# Altium footprint library 4.26-KF-3.5mm连接器.PcbLib: 7 footprints
Each footprint in its own frame and in the unit in brackets; x right, y up, seen from the top. Pads: shape width x height; smd on the part's side, far side on the other; paste and mask are expansions set on the pad; w line width, h text height; cw(c..) or ccw(c..) is an arc to the next point about the centre after c.
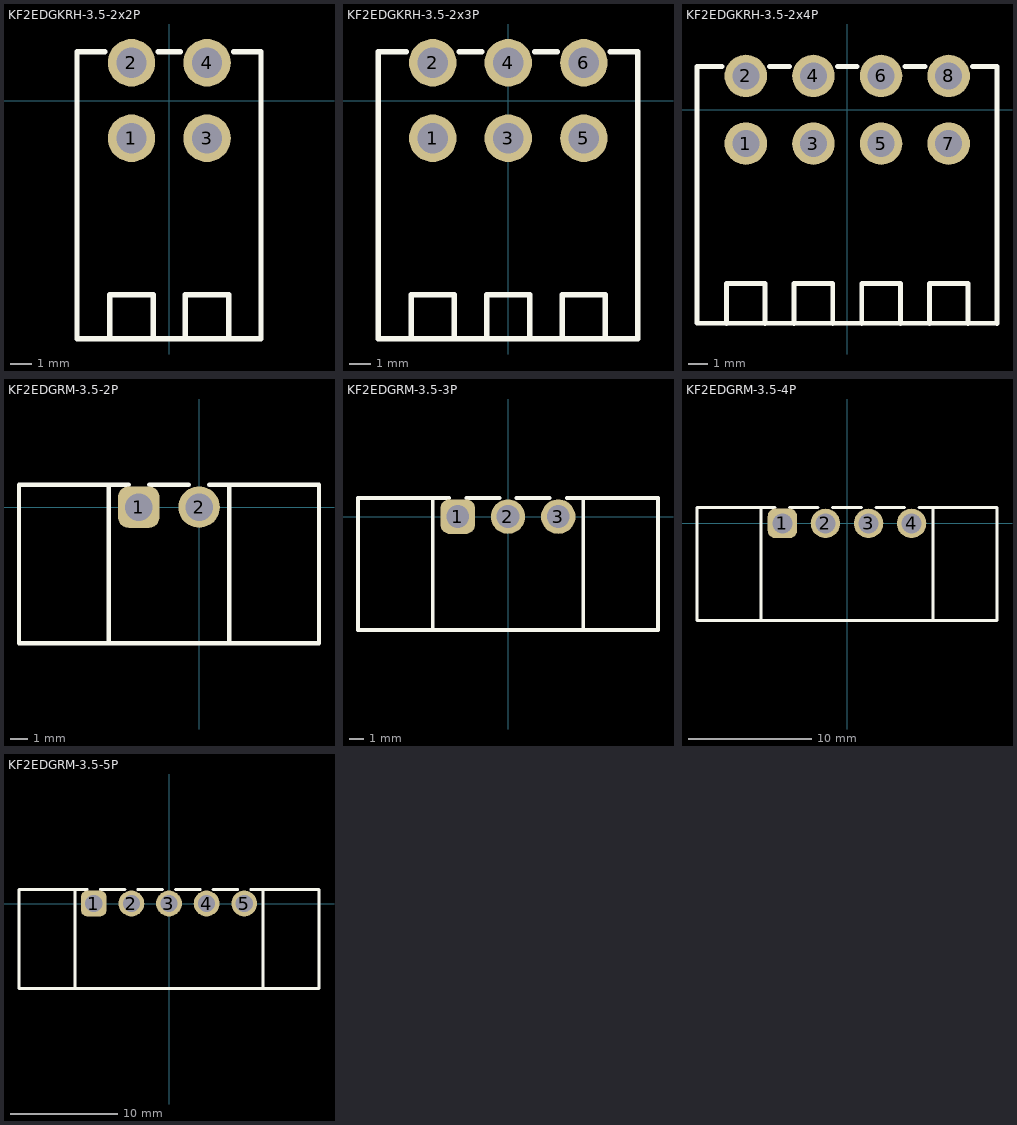
[diagram p0: the footprints below, top view; thin cyan lines are the x and y axes]

## KF2EDGKRH-3.5-2x2P [mm]
pads (4):
  round 2.2 hole 1.4: 1(-1.75,-1.75) 2(-1.75,1.75) 3(1.75,-1.75) 4(1.75,1.75)
Top Overlay:
  lines w0.254: -2.983,2.25 -4.275,2.25 -4.275,-11.049 4.25,-11.049 ; -2.75,-11.05 -2.75,-9 -0.75,-9 -0.75,-11.05 ; -0.517,2.25 0.517,2.25 ; 0.75,-11.05 0.75,-9 2.75,-9 2.75,-11.05 ; 2.983,2.25 4.25,2.25 4.25,-11.05
3D body: height 15.33, standoff -2.47, extent -4.25,-11.15 4.25,2.15

## KF2EDGKRH-3.5-2x3P [mm]
pads (6):
  round 2.2 hole 1.4: 1(-3.5,-1.75) 2(-3.5,1.75) 3(0,-1.75) 4(0,1.75) 5(3.5,-1.75) 6(3.5,1.75)
Top Overlay:
  lines w0.254: -4.733,2.25 -6.025,2.25 -6.025,-11.049 6,-11.049 ; -4.5,-11.05 -4.5,-9 -2.5,-9 -2.5,-11.05 ; -2.267,2.25 -1.233,2.25 ; -1,-11.05 -1,-9 1,-9 1,-11.05 ; 1.234,2.25 2.267,2.25 ; 2.5,-11.05 2.5,-9 4.5,-9 4.5,-11.05 ; 4.733,2.25 6,2.25 6,-11.05
3D body: height 15.35, standoff -2.45, extent -6,-11.05 6,2.25

## KF2EDGKRH-3.5-2x4P [mm]
pads (8):
  round 2.2 hole 1.4: 1(-5.25,-1.75) 2(-5.25,1.75) 3(-1.75,-1.75) 4(-1.75,1.75) 5(1.75,-1.75) 6(1.75,1.75) 7(5.25,-1.75) 8(5.25,1.75)
Top Overlay:
  lines w0.254: -6.483,2.25 -7.775,2.25 -7.775,-11.049 7.75,-11.049 ; -6.25,-11.05 -6.25,-9 -4.25,-9 -4.25,-11.05 ; -4.017,2.25 -2.983,2.25 ; -2.75,-11.05 -2.75,-9 -0.75,-9 -0.75,-11.05 ; -0.516,2.25 0.517,2.25 ; 0.75,-11.05 0.75,-9 2.75,-9 2.75,-11.05 ; 2.983,2.25 4.017,2.25 ; 4.25,-11.05 4.25,-9 6.25,-9 6.25,-11.05 ; 6.483,2.25 7.75,2.25 7.75,-11.05
3D body: height 15.33, standoff -2.47, extent -7.75,-11.05 7.75,2.25

## KF2EDGRM-3.5-2P [mm]
pads (2):
  rrect50% 2.4x2.4 hole 1.6: 1(-3.5,0)
  round 2.4 hole 1.6: 2(0,0)
Top Overlay:
  lines w0.254: -5.25,-7.9 -5.25,1.3 ; -4.095,1.3 -10.45,1.3 -10.45,-7.9 6.95,-7.9 6.95,1.3 0.595,1.3 ; -2.905,1.3 -0.595,1.3 ; 1.75,-7.9 1.75,1.3
3D body: height 7.68, standoff -3.27, extent -10.4,-8 6.9,1.2

## KF2EDGRM-3.5-3P [mm]
pads (3):
  rrect50% 2.4x2.4 hole 1.6: 1(-3.5,0)
  round 2.4 hole 1.6: 2(0,0) 3(3.5,0)
Top Overlay:
  lines w0.254: -5.25,-7.9 -5.25,1.3 ; -4.095,1.3 -10.45,1.3 -10.45,-7.9 10.45,-7.9 10.45,1.3 4.095,1.3 ; -2.905,1.3 -0.595,1.3 ; 0.595,1.3 2.905,1.3 ; 5.25,-7.9 5.25,1.3
3D body: height 7.68, standoff -3.27, extent -10.4,-8 10.4,1.2

## KF2EDGRM-3.5-4P [mm]
pads (4):
  rrect50% 2.4x2.4 hole 1.6: 1(-5.25,0)
  round 2.4 hole 1.6: 2(-1.75,0) 3(1.75,0) 4(5.25,0)
Top Overlay:
  lines w0.254: -7,-7.9 -7,1.3 ; -5.845,1.3 -12.2,1.3 -12.2,-7.9 12.2,-7.9 12.2,1.3 5.845,1.3 ; -4.655,1.3 -2.345,1.3 ; -1.155,1.3 1.155,1.3 ; 2.345,1.3 4.655,1.3 ; 7,-7.9 7,1.3
3D body: height 7.68, standoff -3.27, extent -12.15,-8 12.15,1.2

## KF2EDGRM-3.5-5P [mm]
pads (5):
  rrect50% 2.4x2.4 hole 1.6: 1(-7,0)
  round 2.4 hole 1.6: 2(-3.5,0) 3(0,0) 4(3.5,0) 5(7,0)
Top Overlay:
  lines w0.254: -8.75,-7.9 -8.75,1.3 ; -7.595,1.3 -13.95,1.3 -13.95,-7.9 13.95,-7.9 13.95,1.3 7.595,1.3 ; -6.405,1.3 -4.095,1.3 ; -2.905,1.3 -0.595,1.3 ; 0.595,1.3 2.905,1.3 ; 4.095,1.3 6.405,1.3 6.07,1.3 ; 8.75,-7.9 8.75,1.3
3D body: height 7.55, standoff -3.4, extent -13.9,-8 13.9,1.2